# EAGLE library part 6173-15XXXX (library con-wieson)
WIESON 6173-15xxxx series SD and MMC memory card connector (PUSH / PUSH TYPE) with card detect and write protect switches SMD mount
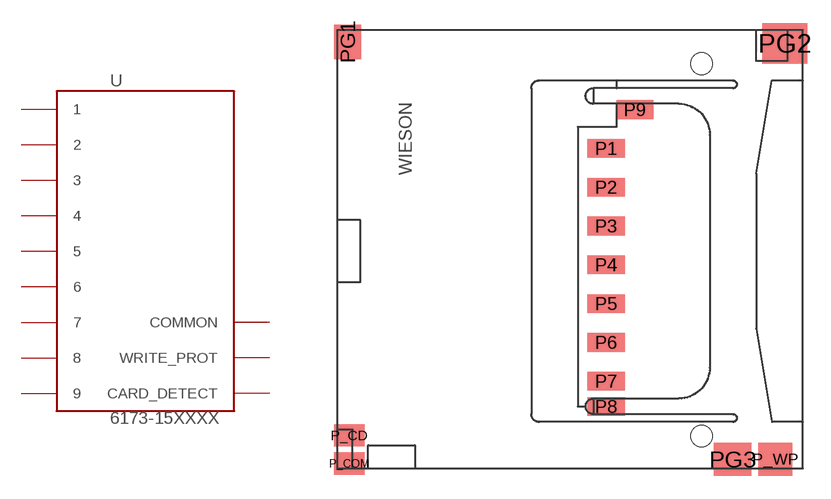
[diagram p0: symbol with the pads of 6173PACK; footprint 6173PACK]

Designator prefix -

## 6173-15XXXX  [6173PACK]
P1  1
P2  2
P3  3
P4  4
P5  5
P6  6
P7  7
P8  8
P9  9
P_CD  CARD_DETECT
P_COM  COMMON
P_WP  WRITE_PROT

## Footprint 6173PACK (pad centres in mm)
WIESON 6173 series SD and MMC memory card connector (PUSH / PUSH TYPE) SMD mount PCB layout based on datasheet downloaded from http://www.wieson.com/drawing_dwn.php?ID=92&Field=ProImg
smd 2.4 x 1.2: P1 17.525,21.035; P2 17.525,18.535; P3 17.525,16.035; P4 17.525,13.535; P5 17.525,11.035; P6 17.525,8.535; P7 17.525,6.035; P8 17.525,4.41; P9 19.375,23.535
smd 1.95 x 1.4: P_CD 0.975,2.55
smd 1.95 x 1.45: P_COM 0.975,0.725
smd 2.2 x 2.1: P_WP 28.425,1
smd 1.75 x 2.2: PG1 0.875,27.9
smd 2.9 x 2.6: PG2 29.025,27.8
smd 2.4 x 2.1: PG3 25.675,1
hole 1.4 at 23.675,26.5
hole 1.4 at 23.675,2.5